# EAGLE library part DPX202700DT-4162A1 (library DPX202700DT)
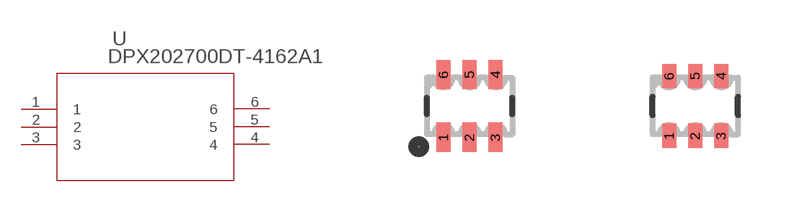
[diagram p0: symbol with the pads of RF_4060A1_TDK; footprints RF_4060A1_TDK, RF_4060A1_TDK-L]

Designator prefix U

## DPX202700DT-4162A1 (BUILT_BY: EMA_Matt; COPYRIGHT: Copyright (C) 2018 Accelerated Designs. All rights reserved; MANUFACTURER_PART_NUMBER: DPX202700DT-4162A1; PROD_ID: IC-15465; SOURCELIBRARY: TDK_2019-10-09; VENDOR: TDK)  [RF_4060A1_TDK]
1  1  pas
2  2  pas
3  3  pas
4  4  pas
5  5  pas
6  6  pas

## DPX202700DT-4162A1RF_4060A1_TDK-L (BUILT_BY: EMA_Matt; COPYRIGHT: Copyright (C) 2018 Accelerated Designs. All rights reserved; MANUFACTURER_PART_NUMBER: DPX202700DT-4162A1; SOURCELIBRARY: TDK_2019-10-09; VENDOR: TDK)  [RF_4060A1_TDK-L]
Pads as for RF_4060A1_TDK

## DPX202700DT-4162A1RF_4060A1_TDK-M (BUILT_BY: EMA_Matt; COPYRIGHT: Copyright (C) 2018 Accelerated Designs. All rights reserved; MANUFACTURER_PART_NUMBER: DPX202700DT-4162A1; SOURCELIBRARY: TDK_2019-10-09; VENDOR: TDK)  [RF_4060A1_TDK-M]
Pads as for RF_4060A1_TDK

## Footprint RF_4060A1_TDK (pad centres in mm)
smd 0.356 x 0.737: 1 -0.65,-0.787; 2 0,-0.787; 3 0.65,-0.787; 4 0.65,0.787; 5 0,0.787; 6 -0.65,0.787

## Footprint RF_4060A1_TDK-L (pad centres in mm)
smd 0.356 x 0.61: 1 -0.65,-0.749; 2 0,-0.749; 3 0.65,-0.749; 4 0.65,0.749; 5 0,0.749; 6 -0.65,0.749

## Footprint RF_4060A1_TDK-M (pad centres in mm)
smd 0.406 x 0.864: 1 -0.65,-0.826; 2 0,-0.826; 3 0.65,-0.826; 4 0.65,0.826; 5 0,0.826; 6 -0.65,0.826